# EAGLE library part BNO055 (library BNO055)
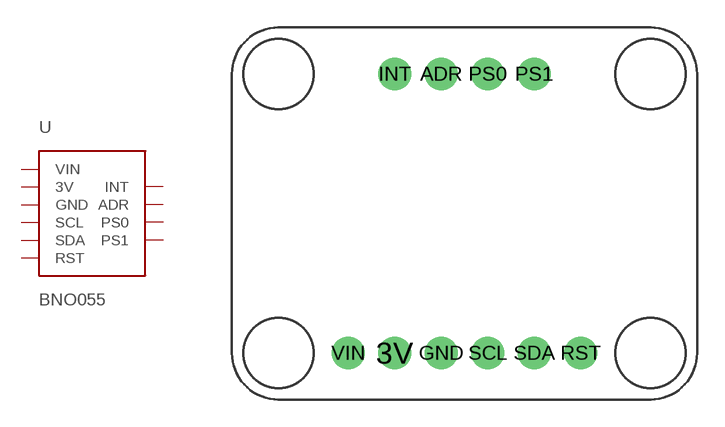
[diagram p0: symbol with the pads of BNO055; footprint BNO055]

Designator prefix -

## BNO055  [BNO055]
3V  3V
ADR  ADR
GND  GND
INT  INT
PS0  PS0
PS1  PS1
RST  RST
SCL  SCL
SDA  SDA
VIN  VIN

## Footprint BNO055 (pad centres in mm)
drill 1.016 pad 1.778: 3V -3.81,-7.62; ADR -1.27,7.62; GND -1.27,-7.62; INT -3.81,7.62; PS0 1.27,7.62; PS1 3.81,7.62; RST 6.35,-7.62; SCL 1.27,-7.62; SDA 3.81,-7.62; VIN -6.35,-7.62